# Altium schematic symbol library NEC.SchLib: 2 symbols
Pins are listed as number, name and electrical type; pins without a type are passive.

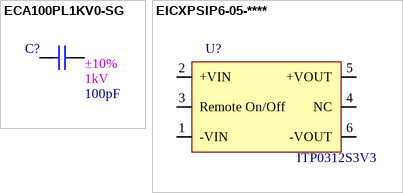
[diagram p0: symbols ECA100PL1KV0-SG to EICXPSIP6-05-****]

## ECA100PL1KV0-SG
designator C?, comment value 100pF  2nd Auxiliary Field: ±10%  1st Auxiliary Field: 1kV  (hidden comment: CAP CER 100PF 1KV X7R 1206)
Manufacturer: AVX Corporation; Manufacturer Part Number: 1206AC101KAT1A; Internal Part Number: ECA100PL1KV0-SG; Vendor Part Number: 478-2951-1-ND; Component Height (mm): 1.80mm; 3rd Auxiliary Field: ROHS3 Compliant; Temp Co: -55°C ~ 125°C; Vendor Name: Digi-Key; Part Type: CAP CER 100PF 1KV X7R 1206; 4th Auxiliary Field: *
footprint SMDC1206 (Footprint not found)
pins: 1, 2

## EICXPSIP6-05-****
designator U?, comment value ITP0312S3V3  (hidden comment: DC-DC, 3W, 4:1 INPUT, SIP6)
Manufacturer: XP Power; Internal Part Number: EICXPSIP6-05-****; Vendor Part Number: 1470-4828-ND; Component Height (mm): 12.2mm; 3rd Auxiliary Field: ROHS3 Compliant; Vendor Name: Digi-Key; Temp Co: -40°C ~ 75°C (With Derating); 1st Auxiliary Field: 2.3W; 2nd Auxiliary Field: 700mA; Part Type: DC-DC, 3W, 4:1 INPUT, SIP6; Manufacturer Part Number: ITP0312S3V3; 4th Auxiliary Field: *
footprint XP_ITP0312S3V3
pins: 1 -VIN, 2 +VIN, 3 Remote On/Off, 4 NC, 5 +VOUT, 6 -VOUT